# Altium schematic symbol library iot_hdmi_mux.SchLib: 20 symbols
Pins are listed as number, name and electrical type; pins without a type are passive.

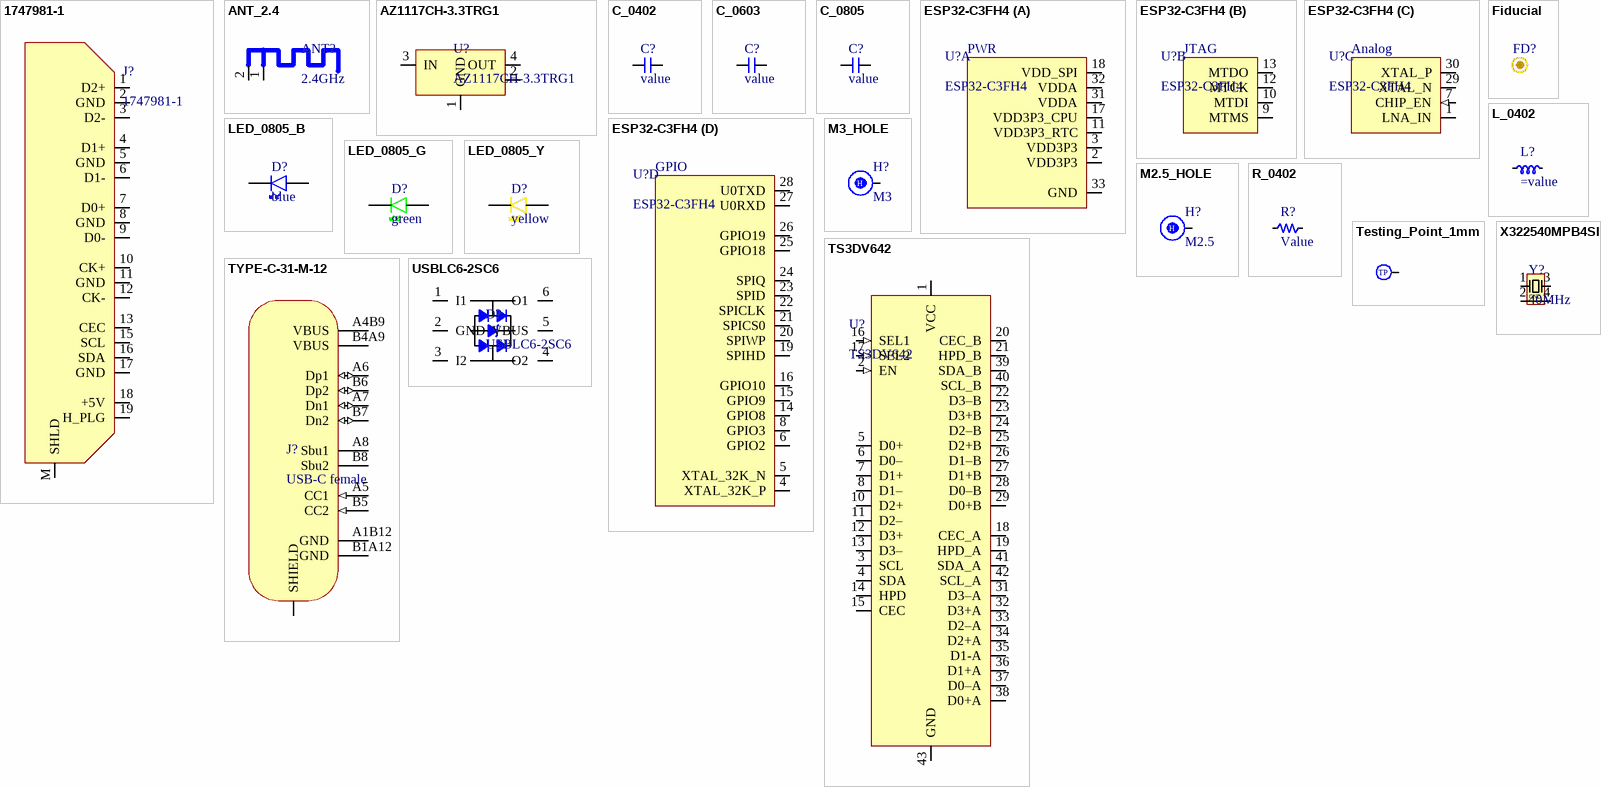
[diagram p0: symbols 1747981-1 to X322540MPB4SI]

## 1747981-1
designator J?
HDMI (High-Definition Multimedia Interface) Connector; No Flange; Through hole; Manufacturer: AMP - TE CONNECTIVITY; Supplier: Allied Electronics; Supplier Part Number: 70084303; Manufacturer Part Number: 1747981-1; RoHS: No; ComponentLink1URL: http://www.farnell.com/datasheets/596170.pdf?src-supplier=Farnell; ComponentLink1Description: http://www.farnell.com/datasheets/596170.pdf?src-supplier=Farnell; ComponentLink2URL: https://www.te.com/commerce/DocumentDelivery/DDEController?Action=srchrtrv&DocNm=1747981&DocType=Customer+Drawing&DocLang=English&src-supplier=Digikey; ComponentLink2Description: https://www.te.com/commerce/DocumentDelivery/DDEController?Action=srchrtrv&DocNm=1747981&DocType=Customer+Drawing&DocLang=English&src-supplier=Digikey; ComponentLink3URL: http://www.farnell.com/datasheets/596170.pdf?src-supplier=Newark; ComponentLink3Description: http://www.farnell.com/datasheets/596170.pdf?src-supplier=Newark; LCSC: C428484
footprint 1747981-1 (19P Female HDMI Horizontal attachment 500mA -25℃~+70℃ SMD D-Sub / VGA Connectors ROHS)
pins: 1 D2+ (io), 2 GND (power), 3 D2- (io), 4 D1+ (io), 5 GND (power), 6 D1- (io), 7 D0+ (io), 8 GND (power), 9 D0- (io), 10 CK+ (io), 11 GND (power), 12 CK- (io), 13 CEC (io), 15 SCL (io), 16 SDA (io), 17 GND (power), 18 +5V (power), 19 H_PLG (io), M SHLD (power)

## ANT_2.4
designator ANT?, comment 2.4GHz  (net tie, no BOM)
SWRA117D 2.4GHz antenna design by TI
footprint ANT_2.4 (SWRA117D 2.4GHz antenna design by TI)
pins: 1, 2

## AZ1117CH-3.3TRG1
designator U?
Fixed Positive LDO Regulator, 3.3V, 1.3V Dropout, BIPolar, PDSO3; Manufacturer: Diodes; Package Body Material: Plastic; Dropout Voltage1-Nom: 1.2V; Input Voltage Absolute-Max: 18V; Max Supply Voltage: 15V; Line Regulation-Max: 0.01%; Load Regulation-Max: 0.015%; Channels: 1; Output Current1-Max: 800mA; Output Voltage1-Max: 3.365V; Output Voltage1-Min: 3.235V; Regulator Type: FIXED POSITIVE SINGLE OUTPUT LDO REGULATOR; Voltage Tolerance-Max: 1.97%; Qualification Status: Not Qualified; Supplier 1: Future Electronics; Manufacturer Part Number: AZ1117CH-3.3TRG1; RoHS: Yes; Category: Voltage Regulators - Linear; Stock 1: 820000; Pricing 1: 4000=0.0702, 16000=0.0672, 40000=0.0653, 100000=0.0634, 160000=0.0607 (USD); Case/Package: SOP; Pins: 3; Package Shape: Rectangular; Terminal Finish: Tin; JESD-609 Code: e3; Adjustability: FIXED; Dropout Voltage1-Max: 1.3V; JESD-30 Code: R-PDSO-G3; Moisture Sensitivity Level: 1; Number of Outputs: 1; Operating Temperature, TJ-Max: 125°C; Operating Temperature, TJ-Min: -20°C; Output Voltage1-Nom: 3.3V; Package Style: SMALL OUTLINEMeter; Packaging: Tape and Reel; Surface Mount: Yes; Technology: BIPOLAR; Terminal Form: Gull Wing; Terminal Position: DUAL; Length: 6.5mm; Width: 3.5mm; Terminal Pitch: 2.3mm; Height - Seated (Max): 1.8mm; Reach SVHC Compliant: Yes; RoHS Compliant: Yes; ComponentLink1URL: https://datasheet.ciiva.com:443/pdfs/VipMasterIC/IC/DIOD/DIOD-S-A0007713706/DIOD-S-A0007713706-1.pdf?src-supplier=IHS+Markit; ComponentLink1Description: https://datasheet.ciiva.com:443/pdfs/VipMasterIC/IC/DIOD/DIOD-S-A0007713706/DIOD-S-A0007713706-1.pdf?src-supplier=IHS+Markit; ComponentLink2URL: https://datasheet.ciiva.com/29569/az1117c-29569914.pdf?src-supplier=Digi-Key; ComponentLink2Description: https://datasheet.ciiva.com/29569/az1117c-29569914.pdf?src-supplier=Digi-Key; ComponentLink3URL: https://datasheet.ciiva.com/29569/az1117c-29569915.pdf?src-supplier=Digi-Key; ComponentLink3Description: https://datasheet.ciiva.com/29569/az1117c-29569915.pdf?src-supplier=Digi-Key; ComponentLink4URL: https://datasheet.ciiva.com/29569/az1117c-29569913.pdf?src-supplier=Digi-Key; ComponentLink4Description: https://datasheet.ciiva.com/29569/az1117c-29569913.pdf?src-supplier=Digi-Key; Supplier Part Number 1: 6047233
footprint AZ1117CH-3.3TRG1 (SOT223, 4-Leads, Body 6.51x7.00mm (avg), Pitch 2.30mm, IPC Medium Density)
pins: 1 GND (power), 2 OUT (power), 3 IN (power), 4 OUT (power)

## C_0402
designator C?, comment value
0402 cap
footprint C0402 (Chip Capacitor, 2-Leads, Body 1.00x0.50mm, IPC Medium Density)
pins: 1, 2

## C_0603
designator C?, comment value
0603 cap
footprint C0603 (Chip Capacitor, 2-Leads, Body 1.60x0.80mm, IPC Medium Density)
pins: 1, 2

## C_0805
designator C?, comment value
0805 cap
footprint C0805 (Chip Capacitor, 2-Leads, Body 2.00x1.25mm, IPC Medium Density)
pins: 1, 2

## ESP32-C3FH4
designator U?
RF System on a Chip - SoC SMD IC ESP32-C3FH4, single-core MCU, 2.4G Wi-Fi & BLE 5.0 combo, QFN 32-pin, 5*5 mm, 4 MB flash inside, -40 C - +105 C; Manufacturer: Espressif Systems; Supplier: Mouser; Supplier Part Number: 356-ESP32-C3FH4; Manufacturer Part Number: ESP32-C3FH4; RoHS: No; Category: LDO; Stock: 8425; Pricing: 1=1.3, 10=1.3, 50=1.3, 100=1.3, 1000=1.3, 10000=1.3 (USD); LCSC: C2858491
footprint QFN50P500X500X90_HS-33N (QFN, 32-Leads, Body 5.00x5.00mm, Pitch 0.50mm, Thermal Pad 3.70x3.70mm, IPC Medium Density)
part A pins: 2 VDD3P3 (power) "Analog power domain", 3 VDD3P3 (power) "Analog power domain", 11 VDD3P3_RTC (power) "RTC and part of Digital power domains", 17 VDD3P3_CPU (power) "Digital power domain", 18 VDD_SPI (power) "GPIO11, In-package flash (backup power line)", 31 VDDA (power) "Analog power domain", 32 VDDA (power) "Analog power domain", 33 GND (power) "External ground connection."
part B pins: 9 MTMS (io) "BOOT, MTMS, ADC1_CH4, GPIO4, FSPIHD", 10 MTDI (io) "MTDI, ADC2_CH0, GPIO5, FSPIWP", 12 MTCK (io) "MTCK, GPIO6, FSPICLK", 13 MTDO (io) "MTDO, GPIO7, FSPID"
part C pins: 1 LNA_IN (io) "Low Noise Amplifier (RF LNA) input / output signals", 7 CHIP_EN (in) ""High: on, the chip is started up. / Low: off, the chip is shut down. / Note: Do not leave the CHIP_EN pin floating."", 29 XTAL_N (io) "External clock input/output connected to ESP32-C3’s oscillator.", 30 XTAL_P (io) "External clock input/output connected to ESP32-C3’s oscillator."
part D pins: 4 XTAL_32K_P (io) "XTAL_32K_P, ADC1_CH0, GPIO0", 5 XTAL_32K_N (io) "XTAL_32K_N, ADC1_CH1, GPIO1", 6 GPIO2 (io) "ADC1_CH2, GPIO2, FSPIQ", 8 GPIO3 (io) "ADC1_CH3, GPIO3", 14 GPIO8 (io), 15 GPIO9 (io), 16 GPIO10 (io) "GPIO10, FSPICS0", 19 SPIHD (io) "FLASH-SPIHD, GPIO12", 20 SPIWP (io) "FLASH-SPIWP, GPIO13", 21 SPICS0 (io) "FLASH-SPICS0, GPIO14", 22 SPICLK (io) "FLASH-SPICLK, GPIO15", 23 SPID (io) "FLASH-SPID, GPIO16", 24 SPIQ (io) "FLASH-SPIQ, GPIO17", 25 GPIO18 (io) "USB_D-, GPIO18", 26 GPIO19 (io) "USB_D+, GPIO19", 27 U0RXD (io) "UART0, GPIO20", 28 U0TXD (io) "UART0, GPIO21"
part A text: PWR
part B text: JTAG
part C text: Analog
part D text: GPIO

## Fiducial
designator FD?
footprint Fiducial

## L_0402
designator L?
0402 inductor
footprint L0402 (Chip Resistor, 2-Leads, Body 1.00x0.50mm, IPC Medium Density)
pins: 1, 2

## LED_0805_B
designator D?, comment blue
0805 blue LED
footprint LED_0805_B (Green 0805 LED)
pins: 1, 2

## LED_0805_G
designator D?, comment green
0805 green LED
footprint LED_0805_G (Green 0805 LED)
pins: 1, 2

## LED_0805_Y
designator D?, comment yellow
0805 yellow LED
footprint LED_0805_Y (Yellow 0805 LED)
pins: 1, 2

## M2.5_HOLE
designator H?, comment M2.5  (no BOM)
M2.5 hole with connection
footprint M2.5_HOLE
pins: 1
text: H

## M3_HOLE
designator H?, comment M3  (no BOM)
M3 hole with connection
footprint M3_HOLE
pins: 1
text: H

## R_0402
designator R?, comment Value
0402 62.5mW
footprint R0402 (Chip Resistor, 2-Leads, Body 1.00x0.50mm, IPC Medium Density)
pins: 1, 2

## Testing_Point_1mm
designator TP?  (no BOM)
1mm testing point
footprint TestingPoint_1mm
pins: 1
text: TP

## TS3DV642
designator U?
6-Gbps 12-channel differential 1-to-2 and 2-to-1 mux for DVI 1.0/ DisplayPort 1.4 /HDMI 2.0; Manufacturer: Texas Instruments; Manufacturer Part Number: TS3DV642A0RUAR; Package Body Material: Plastic; Consumer IC Type: CONSUMER CIRCUIT; Channels: 1; Max Supply Voltage: 4.5V; Min Supply Voltage: 2.6V; Supplier: Mouser; Supplier Part Number: 595-TS3DV642A0RUAR; RoHS: Yes; Category: Decoders and Multiplexers; Stock: 5076; Pricing: 1=1.49, 10=0.988, 50=0.988, 100=0.878, 1000=0.767, 10000=0.725 (USD); Case/Package: HVQCCN; Pins: 42; Package Shape: Rectangular; Terminal Finish: Nickel; Min Operating Temperature: -40°C; Max Operating Temperature: 85°C; JESD-609 Code: e4; Moisture Sensitivity Level: 3; Package Style: CHIP CARRIER, HEAT SINK/SLUG, VERY THIN PROFILEMeter; Peak Reflow Temperature (Cel): 260°C; Surface Mount: Yes; Terminal Form: No Lead; Terminal Position: QUAD; Length: 9mm; Width: 3.5mm; Height - Seated (Max): 0.8mm; Terminal Pitch: 0.5mm; RoHS Compliant: Yes; Temperature Grade: INDUSTRIAL; Reach SVHC Compliant: Yes; ComponentLink1URL: https://www.ti.com:443/lit/ds/symlink/ts3dv642.pdf?src-supplier=IHS+Markit; ComponentLink1Description: https://www.ti.com:443/lit/ds/symlink/ts3dv642.pdf?src-supplier=IHS+Markit; ComponentLink2URL: https://datasheet.ciiva.com/30004/ts3dv642-30004934.pdf?src-supplier=Avnet; ComponentLink2Description: https://datasheet.ciiva.com/30004/ts3dv642-30004934.pdf?src-supplier=Avnet; ComponentLink3URL: https://datasheet.ciiva.com/18576/ts3dv642-18576654.pdf?src-supplier=Digikey; ComponentLink3Description: https://datasheet.ciiva.com/18576/ts3dv642-18576654.pdf?src-supplier=Digikey; LCSC: C157482
footprint QFN50P350X900X80_HS-43N (QFN, 42-Leads, Body 3.50x9.00mm, Pitch 0.50mm, Thermal Pad 2.05x7.55mm, IPC Medium Density)
pins: 1 VCC (power) "Supply Voltage", 2 EN (in) "Output Enable", 3 SCL (io) "Common Port, DDC Clock", 4 SDA (io) "Common Port, DDC Data", 5 D0+ (io) "Common Port, Channel 0, +ve signal", 6 D0– (io) "Common Port, Channel 0, –ve signal", 7 D1+ (io) "Common Port, Channel 1, +ve signal", 8 D1– (io) "Common Port, Channel 1, –ve signal", 10 D2+ (io) "Common Port, Channel 2, +ve signal", 11 D2– (io) "Common Port, Channel 2, –ve signal", 12 D3+ (io) "Common Port, Channel 3, +ve signal", 13 D3– (io) "Common Port, Channel 3,–ve signal", 14 HPD (io) "Common Port, Hot Plug Detects", 15 CEC (io) "Common Port, Consumer Electronics Control", 16 SEL1 (in) "Select Input 1", 17 SEL2 (in) "Select Input 2", 18 CEC_A (io) "Port A, Consumer Electronics Control", 19 HPD_A (io) "Port A, Hot Plug Detects", 20 CEC_B (io) "Port B, Consumer Electronics Control", 21 HPD_B (io) "Port B, Hot Plug Detects", 22 D3–B (io) "Port B, Channel 3, –ve signal", 23 D3+B (io) "Port B, Channel 3, +ve signal", 24 D2–B (io) "Port B, Channel 2,–ve signal", 25 D2+B (io) "Port B, Channel 2, +ve signal", 26 D1–B (io) "Port B, Channel 1, –ve signal", 27 D1+B (io) "Port B, Channel 1, +ve signal", 28 D0–B (io) "Port B, Channel 0, –ve signal", 29 D0+B (io) "Port B, Channel 0, +ve signal", 31 D3–A (io) "Port A, Channel 3, –ve signal", 32 D3+A (io) "Port A, Channel 3, +ve signal", 33 D2–A (io) "Port A, Channel 2,–ve signal", 34 D2+A (io) "Port A, Channel 2, +ve signal", 35 D1-A (io) "Port A, Channel 1, –ve signal", 36 D1+A (io) "Port A, Channel 1, +ve signal", 37 D0–A (io) "Port A, Channel 0, –ve signal", 38 D0+A (io) "Port A, Channel 0, +ve signal", 39 SDA_B (io) "Port B, DDC Data", 40 SCL_B (io) "Port B, DDC Clock", 41 SDA_A (io) "Port A, DDC Data", 42 SCL_A (io) "Port A, DDC Clock", 43 GND (power) "Ground"

## TYPE-C-31-M-12
designator J?, comment USB-C female
Conn USB Type C PL 22 POS 0.5mm Solder ST SMD 22 Terminal 1Port Emboss T/R; Manufacturer: HRO Electronics; Manufacturer Part Number: TYPE-C-31-M-12; Supplier 1: LCSC; RoHS: No; Category: Uncategorized; Stock 1: 6920; Pricing 1: 5=0.1612, 50=0.1282, 150=0.112, 1000=0.0977, 2000=0.0937, 5000=0.0913 (USD); Supplier Part Number 1: C165948
footprint TYPE-C-31-M-12 (5A 1 16P Female Type-C SMD  USB Connectors ROHS)
pins: A1B12 GND (power), A4B9 VBUS (power), A5 CC1 (in), A6 Dp1 (io), A7 Dn1 (io), A8 Sbu1, B1A12 GND (power), B4A9 VBUS (power), B5 CC2 (in), B6 Dp2 (io), B7 Dn2 (io), B8 Sbu2, M1 SHIELD

## USBLC6-2SC6
designator D?
Trans Voltage Suppressor Diode, 5V V(RWM), Unidirectional, 1 Element, Silicon; Manufacturer: STMicroelectronics; Package Body Material: Plastic; Additional Feature: HIGH RELIABILITY; Min Breakdown Voltage: 6V; Number of Elements: 1; Clamping Voltage-Max: 17V; Reference Standard: IEC-61000-4-2; Qualification Status: Not Qualified; Supplier 1: Mouser; Manufacturer Part Number: USBLC6-2SC6; RoHS: Yes; Category: TVS Diodes; Stock 1: 162692; Pricing 1: 1=0.61, 10=0.522, 50=0.522, 100=0.375, 1000=0.258, 10000=0.204 (USD); Pins: 6; Package Shape: Rectangular; Terminal Finish: Tin; Diode Element Material: SILICON; Min Operating Temperature: -40°C; Max Operating Temperature: 125°C; JESD-609 Code: e3; Polarity: Unidirectional; Package Style: SMALL OUTLINEMeter; Diode Type: TRANS VOLTAGE SUPPRESSOR; JESD-30 Code: R-PDSO-G6; Moisture Sensitivity Level: 1; Rep Pk Reverse Voltage-Max: 5V; Surface Mount: Yes; Technology: AVALANCHE; Terminal Form: Gull Wing; Terminal Position: DUAL; Peak Reflow Temperature (Cel): 260°C; Reach SVHC Compliant: Yes; RoHS Compliant: Yes; ComponentLink1URL: https://datasheet.ciiva.com:443/pdfs/VipMasterIC/IC/SGST/SGSTS30336/SGSTS30336-1.pdf?src-supplier=IHS+Markit; ComponentLink1Description: https://datasheet.ciiva.com:443/pdfs/VipMasterIC/IC/SGST/SGSTS30336/SGSTS30336-1.pdf?src-supplier=IHS+Markit; ComponentLink2URL: https://datasheet.ciiva.com/1268/1690354-1268384.pdf?src-supplier=Element14; ComponentLink2Description: https://datasheet.ciiva.com/1268/1690354-1268384.pdf?src-supplier=Element14; ComponentLink3URL: https://datasheet.ciiva.com/4508/cd00050750-113117-4508433.pdf?src-supplier=Mouser; ComponentLink3Description: https://datasheet.ciiva.com/4508/cd00050750-113117-4508433.pdf?src-supplier=Mouser; ComponentLink4URL: https://datasheet.ciiva.com/15143/getdatasheetpartid-148465-15143789.pdf?src-supplier=Verical; ComponentLink4Description: https://datasheet.ciiva.com/15143/getdatasheetpartid-148465-15143789.pdf?src-supplier=Verical; ComponentLink5URL: https://datasheet.ciiva.com/16200/cd00050750-16200026.pdf?src-supplier=Future+Electronics; ComponentLink5Description: https://datasheet.ciiva.com/16200/cd00050750-16200026.pdf?src-supplier=Future+Electronics; ComponentLink6URL: https://datasheet.ciiva.com/41444/001184109-da-01-en-ic-esd-protecti-usblc6-2sc6-sot-23-6-stm-41444156.pdf?src-supplier=Conrad; ComponentLink6Description: https://datasheet.ciiva.com/41444/001184109-da-01-en-ic-esd-protecti-usblc6-2sc6-sot-23-6-stm-41444156.pdf?src-supplier=Conrad; Supplier Part Number 1: 511-USBLC6-2SC6
footprint USBLC6-2SC6
pins: 1 I1, 2 GND, 3 I2, 4 O2, 5 VBUS, 6 O1

## X322540MPB4SI
designator Y?, comment 40MHz
40MHz Surface Mount Crystal 15pF ±10ppm ±20ppm SMD3225-4P Crystals ROHS; LCSC: C9010
footprint SMD3225-4P (Crystal footprint)
pins: 1, 2, 3, 4
text: GND